# Altium footprint library 618 0xx 211 721.PcbLib: 4 footprints
Each footprint in its own frame and in the unit in brackets; x right, y up, seen from the top. Pads: shape width x height; smd on the part's side, far side on the other; paste and mask are expansions set on the pad; w line width, h text height; cw(c..) or ccw(c..) is an arc to the next point about the centre after c.
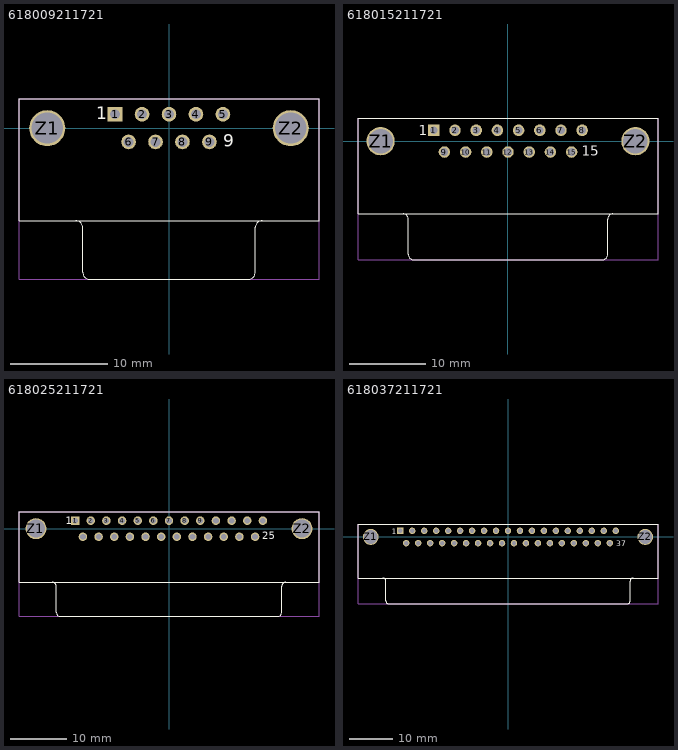
[diagram p0: the footprints below, top view; thin cyan lines are the x and y axes]

## 618009211721 [mm] "9 pins, right angled, 8.08mm, board lock & UNC4-40 rivet without hex screw"
height 12.5
pads (11):
  rect 1.5x1.5 hole 1: 1(-5.54,1.42)
  round 1.5 hole 1: 2(-2.77,1.42) 3(0,1.42) 4(2.77,1.42) 5(5.54,1.42) 6(-4.155,-1.42) 7(-1.385,-1.42) 8(1.385,-1.42) 9(4.155,-1.42)
  round 3.7 hole 3.2: Z1(-12.5,0) Z2(12.5,0)
Top Overlay:
  lines w0.127: -9.56,-9.505 cw(c-9.56,-10.2) -8.865,-10.2 -8.865,-14.8 ; -8.86,-14.805 ccw(c-8.165,-14.805) -8.165,-15.5 8.165,-15.5 ccw(c8.165,-14.805) 8.86,-14.805 ; 8.865,-14.8 8.865,-10.2 cw(c9.56,-10.2) 9.56,-9.505 ; -15.4,-9.5 -15.4,3 15.4,3 15.4,-9.5 -15.4,-9.5
  text "1" at -7.493,0.889 h1.27
  text "9" at 5.588,-1.905 h1.27
Mechanical 13:
  lines w0.127: -15.4,-15.5 15.4,-15.5 15.4,3 -15.4,3 -15.4,-15.5
3D body: height 12.51, standoff -3.39, extent -15.4,-15.5 15.41,3

## 618015211721 [mm] "15 pins, right angled, 8.08mm, board lock & UNC4-40 rivet without hex screw"
height 12.5
pads (17):
  rect 1.5x1.5 hole 1: 1(-9.695,1.42)
  round 1.5 hole 1: 2(-6.925,1.42) 3(-4.155,1.42) 4(-1.385,1.42) 5(1.385,1.42) 6(4.155,1.42) 7(6.925,1.42) 8(9.695,1.42) 9(-8.31,-1.42) 10(-5.54,-1.42) 11(-2.77,-1.42) 12(0,-1.42) 13(2.77,-1.42) 14(5.54,-1.42) 15(8.31,-1.42)
  round 3.7 hole 3.2: Z1(-16.65,0) Z2(16.65,0)
Top Overlay:
  lines w0.127: -13.715,-9.505 cw(c-13.715,-10.2) -13.02,-10.2 -13.02,-14.8 ; -13.015,-14.805 ccw(c-12.32,-14.805) -12.32,-15.5 12.32,-15.5 ccw(c12.32,-14.805) 13.015,-14.805 ; 13.02,-14.8 13.02,-10.2 cw(c13.715,-10.2) 13.715,-9.505 ; -19.6,-9.5 -19.6,3 19.6,3 19.6,-9.5 -19.6,-9.5
  text "1" at -11.684,0.762 h1.27
  text "15" at 9.652,-1.905 h1.27
Mechanical 13:
  lines w0.127: -19.6,-15.5 19.6,-15.5 19.6,3 -19.6,3 -19.6,-15.5
3D body: height 12.51, standoff -3.39, extent -19.54,-15.5 19.6,3

## 618025211721 [mm] "25 pins, right angled, 8.08mm, board lock & UNC4-40 rivet without hex screw"
height 12.5
pads (27):
  rect 1.5x1.5 hole 1: 1(-16.62,1.42)
  round 1.5 hole 1: 2(-13.85,1.42) 3(-11.08,1.42) 4(-8.31,1.42) 5(-5.54,1.42) 6(-2.77,1.42) 7(0,1.42) 8(2.77,1.42) 9(5.54,1.42) 10(8.31,1.42) 11(11.08,1.42) 12(13.85,1.42) 13(16.62,1.42) 14(-15.235,-1.42) 15(-12.465,-1.42) 16(-9.695,-1.42) 17(-6.925,-1.42) 18(-4.155,-1.42) 19(-1.385,-1.42) 20(1.385,-1.42) 21(4.155,-1.42) 22(6.925,-1.42) 23(9.695,-1.42) 24(12.465,-1.42) 25(15.235,-1.42)
  round 3.7 hole 3.2: Z1(-23.55,0) Z2(23.55,0)
Top Overlay:
  lines w0.127: -20.64,-9.505 cw(c-20.64,-10.2) -19.945,-10.2 -19.945,-14.8 ; -19.94,-14.805 ccw(c-19.245,-14.805) -19.245,-15.5 19.245,-15.5 ccw(c19.245,-14.805) 19.94,-14.805 ; 19.945,-14.8 19.945,-10.2 cw(c20.64,-10.2) 20.64,-9.505 ; -26.55,-9.5 -26.55,3 26.55,3 26.55,-9.5 -26.55,-9.5
  text "1" at -18.288,0.762 h1.27
  text "25" at 16.51,-1.905 h1.27
Mechanical 13:
  lines w0.127: -26.55,-15.5 -26.55,3 26.55,3 26.55,-15.5 -26.55,-15.5
3D body: height 12.51, standoff -3.39, extent -26.49,-15.5 26.55,3

## 618037211721 [mm] "37 pins, right angled, 8.08mm, board lock & UNC4-40 rivet without hex screw"
height 12.5
pads (39):
  rect 1.5x1.5 hole 1: 1(-24.93,1.42)
  round 1.5 hole 1: 2(-22.16,1.42) 3(-19.39,1.42) 4(-16.62,1.42) 5(-13.85,1.42) 6(-11.08,1.42) 7(-8.31,1.42) 8(-5.54,1.42) 9(-2.77,1.42) 10(0,1.42) 11(2.77,1.42) 12(5.54,1.42) 13(8.31,1.42) 14(11.08,1.42) 15(13.85,1.42) 16(16.62,1.42) 17(19.39,1.42) 18(22.16,1.42) 19(24.93,1.42) 20(-23.545,-1.42) 21(-20.775,-1.42) 22(-18.005,-1.42) 23(-15.235,-1.42) 24(-12.465,-1.42) 25(-9.695,-1.42) 26(-6.925,-1.42) 27(-4.155,-1.42) 28(-1.385,-1.42) 29(1.385,-1.42) 30(4.155,-1.42) 31(6.925,-1.42) 32(9.695,-1.42) 33(12.465,-1.42) 34(15.235,-1.42) 35(18.005,-1.42) 36(20.775,-1.42) 37(23.545,-1.42)
  round 3.7 hole 3.2: Z1(-31.75,0) Z2(31.75,0)
Top Overlay:
  lines w0.127: -28.95,-9.505 cw(c-28.95,-10.2) -28.255,-10.2 -28.255,-14.8 ; -28.25,-14.805 ccw(c-27.555,-14.805) -27.555,-15.5 27.555,-15.5 ccw(c27.555,-14.805) 28.25,-14.805 ; 28.255,-14.8 28.255,-10.2 cw(c28.95,-10.2) 28.95,-9.505 ; -34.7,-9.5 34.7,-9.5 34.7,3 -34.7,3 -34.7,-9.5
  text "37" at 25.019,-2.159 h1.27
  text "1" at -26.924,0.635 h1.27
Mechanical 13:
  lines w0.127: -34.7,-15.5 -34.7,3 34.7,3 34.7,-15.5 -34.7,-15.5
3D body: height 12.51, standoff -3.39, extent -34.62,-15.5 34.7,3